# Altium schematic symbol library MCP2551 CAN Transceiver.SchLib: 1 symbol
Pins are listed as number, name and electrical type; pins without a type are passive.

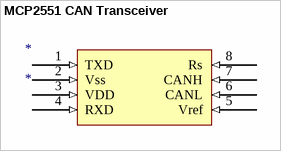
[diagram p0: symbol MCP2551 CAN Transceiver]

## MCP2551 CAN Transceiver
designator *
High-speed CAN transceiver.
pins: 1 TXD (in), 2 Vss (in), 3 VDD (in), 4 RXD (in), 5 Vref (in), 6 CANL (in), 7 CANH (in), 8 Rs (in)